# EAGLE library part DOTSTAR (library LED_BOARD)
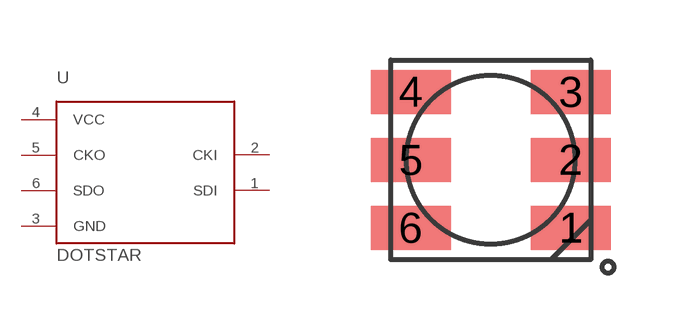
[diagram p0: symbol with the pads of RGBLED5050; footprint RGBLED5050]

Designator prefix U

## DOTSTAR  [RGBLED5050]
1  SDI
2  CKI
3  GND
4  VCC
5  CKO
6  SDO

## Footprint RGBLED5050 (pad centres in mm)
smd 2 x 1.1: 1 2,-1.7; 2 2,0; 3 2,1.7; 4 -2,1.7; 5 -2,0; 6 -2,-1.7